# Altium schematic symbol library STM8TL53C4U6.Schlib: 1 symbol
Pins are listed as number, name and electrical type; pins without a type are passive.

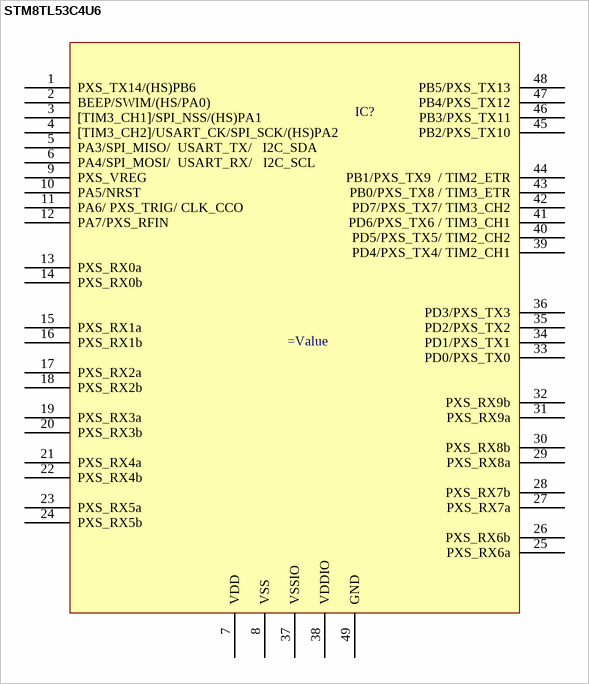
[diagram p0: symbol STM8TL53C4U6]

## STM8TL53C4U6
designator IC?
=Description
pins: 1 PXS_TX14/(HS)PB6, 2 BEEP/SWIM/(HS/PA0), 3 [TIM3_CH1]/SPI_NSS/(HS)PA1, 4 [TIM3_CH2]/USART_CK/SPI_SCK/(HS)PA2, 5 PA3/SPI_MISO/  USART_TX/   I2C_SDA, 6 PA4/SPI_MOSI/  USART_RX/   I2C_SCL, 7 VDD, 8 VSS, 9 PXS_VREG, 10 PA5/NRST, 11 PA6/ PXS_TRIG/ CLK_CCO, 12 PA7/PXS_RFIN, 13 PXS_RX0a, 14 PXS_RX0b, 15 PXS_RX1a, 16 PXS_RX1b, 17 PXS_RX2a, 18 PXS_RX2b, 19 PXS_RX3a, 20 PXS_RX3b, 21 PXS_RX4a, 22 PXS_RX4b, 23 PXS_RX5a, 24 PXS_RX5b, 25 PXS_RX6a, 26 PXS_RX6b, 27 PXS_RX7a, 28 PXS_RX7b, 29 PXS_RX8a, 30 PXS_RX8b, 31 PXS_RX9a, 32 PXS_RX9b, 33 PD0/PXS_TX0, 34 PD1/PXS_TX1, 35 PD2/PXS_TX2, 36 PD3/PXS_TX3, 37 VSSIO, 38 VDDIO, 39 PD4/PXS_TX4/ TIM2_CH1, 40 PD5/PXS_TX5/ TIM2_CH2, 41 PD6/PXS_TX6 / TIM3_CH1, 42 PD7/PXS_TX7/ TIM3_CH2, 43 PB0/PXS_TX8 / TIM3_ETR, 44 PB1/PXS_TX9  / TIM2_ETR, 45 PB2/PXS_TX10, 46 PB3/PXS_TX11, 47 PB4/PXS_TX12, 48 PB5/PXS_TX13, 49 GND